# EAGLE library part CS3310 (library cirrus)
Stereo Digital Volume Control 2 Channels, Serial Control
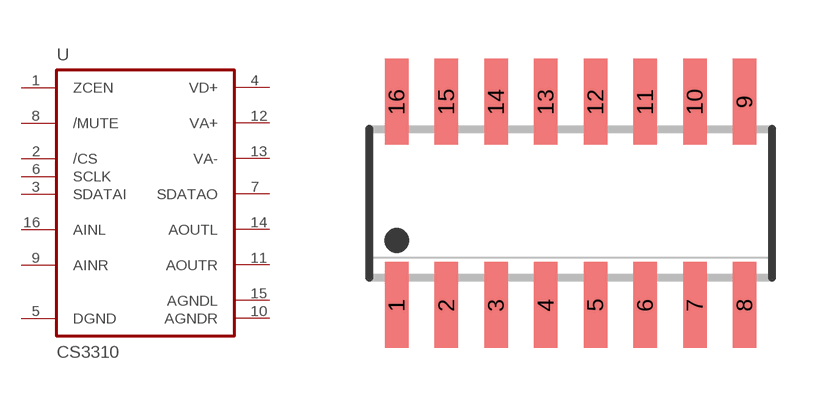
[diagram p6: symbol with the pads of SO16; footprint SO16]

Designator prefix U

## CS3310  [SO16]
1  ZCEN  in
2  /CS  in
3  SDATAI  in
4  VD+  pwr
5  DGND  pwr
6  SCLK  in
7  SDATAO  out
8  /MUTE  in
9  AINR  in
10  AGNDR  pas
11  AOUTR  out
12  VA+  pwr
13  VA-  pwr
14  AOUTL  out
15  AGNDL  pas
16  AINL  in

## Footprint SO16 (pad centres in mm)
SMALL OUTLINE INTEGRATED CIRCUIT body 3.9 mm/JEDEC MS-012AC
smd 0.6 x 2.2: 1 -4.445,-2.6; 2 -3.175,-2.6; 3 -1.905,-2.6; 4 -0.635,-2.6; 5 0.635,-2.6; 6 1.905,-2.6; 7 3.175,-2.6; 8 4.445,-2.6; 9 4.445,2.6; 10 3.175,2.6; 11 1.905,2.6; 12 0.635,2.6; 13 -0.635,2.6; 14 -1.905,2.6; 15 -3.175,2.6; 16 -4.445,2.6